# Altium footprint library SMC_DO214AB.PcbLib: 1 footprints
Each footprint in its own frame and in the unit in brackets; x right, y up, seen from the top. Pads: shape width x height; smd on the part's side, far side on the other; paste and mask are expansions set on the pad; w line width, h text height; cw(c..) or ccw(c..) is an arc to the next point about the centre after c.
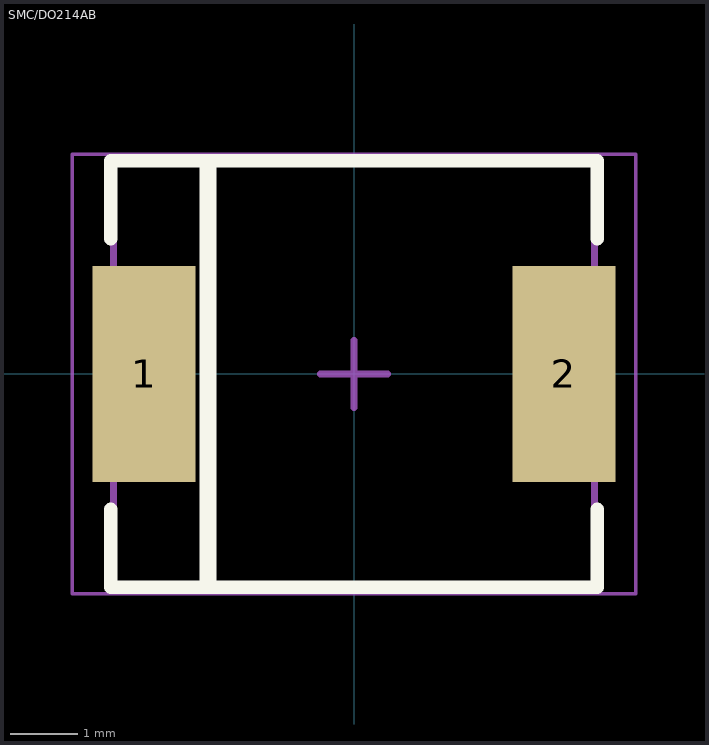
[diagram p0: the footprint, top view; thin cyan lines are the x and y axes]

## SMC/DO214AB [mm]
pads (2):
  rect 1.52x3.2 smd: 1(-3.105,0) 2(3.105,0)
Top Overlay:
  lines w0.2: -3.6,-2 -3.6,-3.15 3.6,-3.15 3.6,-2 ; -3.6,2 -3.6,3.15 3.6,3.15 3.6,2
  lines w0.254: -2.159,-3.048 -2.159,3.048
Mechanical 13:
  lines w0.1: -3.555,-3.11 3.555,-3.11 3.555,3.11 -3.555,3.11 -3.555,-3.11
Mechanical 15:
  lines w0.05: -4.165,-3.25 4.165,-3.25 4.165,3.25 -4.165,3.25 -4.165,-3.25
  lines w0.1: -0.5,0 0.5,0 ; 0,-0.5 0,0.5
3D body "DIOM6959X26L.step": height 2.62, standoff 0, extent -3.775,-3.11 3.775,3.11